# EAGLE library part 74HC165 (library 000phys605parts)
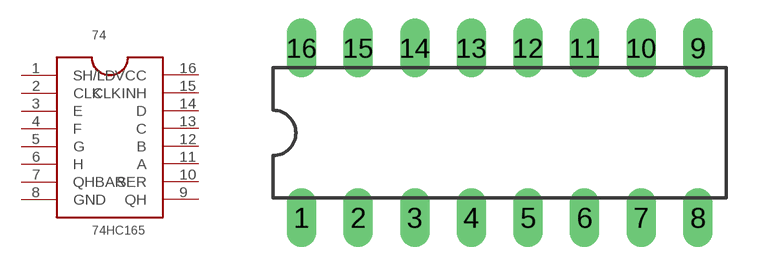
[diagram p1: symbol with the pads of DIL16; footprint DIL16]

Designator prefix 74

## 74HC165  [DIL16]
1  SH/LD
2  CLK
3  E
4  F
5  G
6  H
7  QHBAR
8  GND  out
9  QH
10  SER
11  A
12  B
13  C
14  D
15  CLKINH
16  VCC  in

## Footprint DIL16 (pad centres in mm)
Dual In Line Package
drill 0.813 long: 1 -8.89,-3.81; 2 -6.35,-3.81; 3 -3.81,-3.81; 4 -1.27,-3.81; 5 1.27,-3.81; 6 3.81,-3.81; 7 6.35,-3.81; 8 8.89,-3.81; 9 8.89,3.81; 10 6.35,3.81; 11 3.81,3.81; 12 1.27,3.81; 13 -1.27,3.81; 14 -3.81,3.81; 15 -6.35,3.81; 16 -8.89,3.81